# Altium footprint library SMA.PcbLib: 1 footprints
Each footprint in its own frame and in the unit in brackets; x right, y up, seen from the top. Pads: shape width x height; smd on the part's side, far side on the other; paste and mask are expansions set on the pad; w line width, h text height; cw(c..) or ccw(c..) is an arc to the next point about the centre after c.
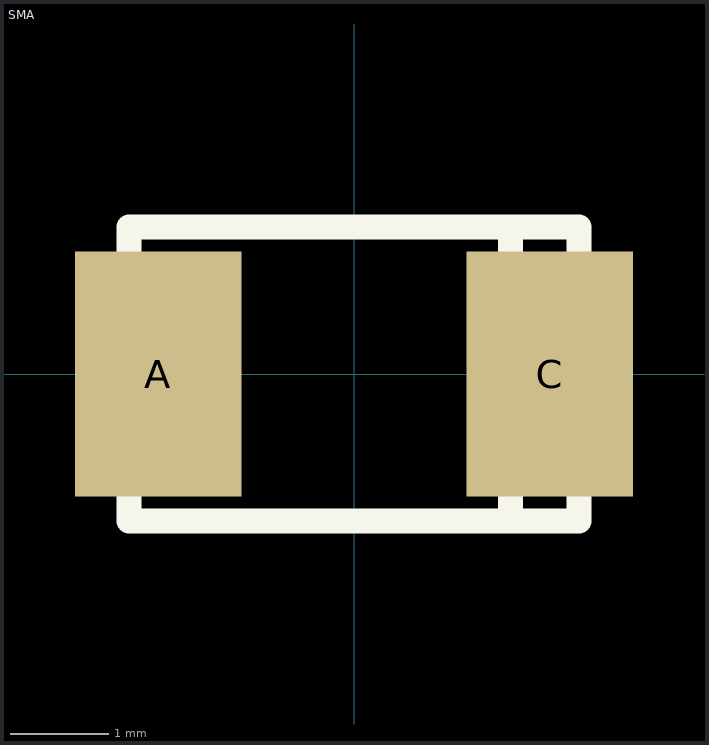
[diagram p0: the footprint, top view; thin cyan lines are the x and y axes]

## SMA [mm]
height 2.3
pads (2):
  rect 1.7x2.5 smd: A(-2,0) C(2,0)
Top Overlay:
  lines w0.254: 1.6,-1.5 1.6,1.5 ; -2.3,-1.5 -2.3,1.5 2.3,1.5 2.3,-1.5 -2.3,-1.5
3D body: height 2.4, standoff 0, extent -2.7,-1.2 2.5,1.4